# EAGLE library part 1X07 (library headers)
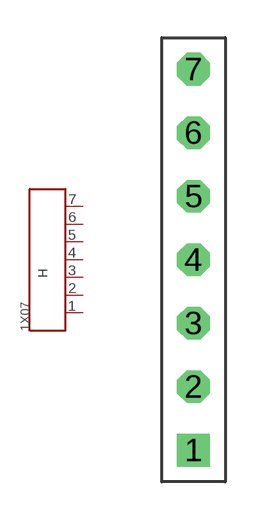
[diagram p0: symbol with the pads of DIP0.1-1X07; footprint DIP0.1-1X07]

Designator prefix H

## 1X07  [DIP0.1-1X07]
1  1
2  2
3  3
4  4
5  5
6  6
7  7

## Footprint DIP0.1-1X07 (pad centres in mm)
drill 0.8 square: 1 0,-7.62
drill 0.8 octagon: 2 0,-5.08; 3 0,-2.54; 4 0,0; 5 0,2.54; 6 0,5.08; 7 0,7.62